# Altium footprint library stm32xx.PCBLIB: 1 footprints
Each footprint in its own frame and in the unit in brackets; x right, y up, seen from the top. Pads: shape width x height; smd on the part's side, far side on the other; paste and mask are expansions set on the pad; w line width, h text height; cw(c..) or ccw(c..) is an arc to the next point about the centre after c.
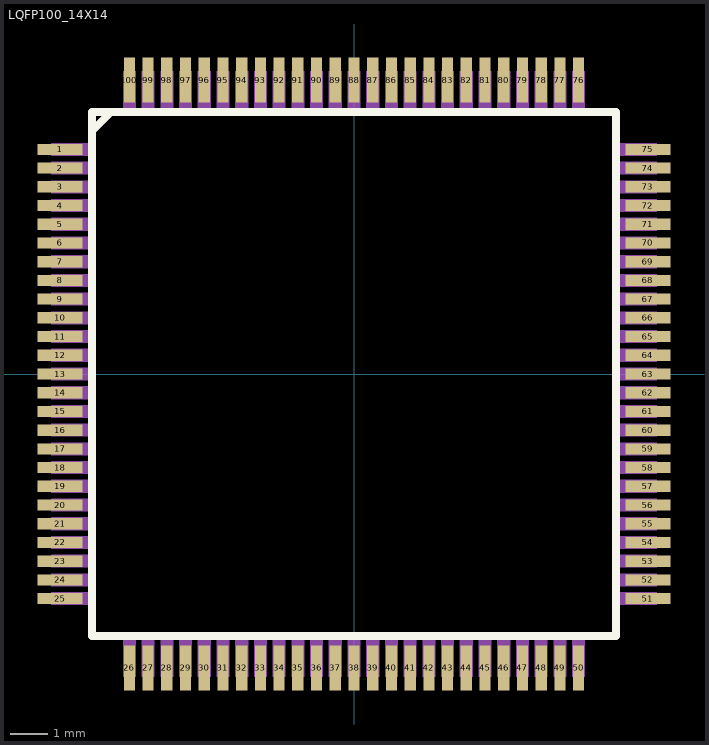
[diagram p0: the footprint, top view; thin cyan lines are the x and y axes]

## LQFP100_14X14 [mm]
pads (100):
  rect 1.2x0.3 smd: 1(-7.85,6) 2(-7.85,5.5) 3(-7.85,5) 4(-7.85,4.5) 5(-7.85,4) 6(-7.85,3.5) 7(-7.85,3) 8(-7.85,2.5) 9(-7.85,2) 10(-7.85,1.5) 11(-7.85,1) 12(-7.85,0.5) 13(-7.85,0) 14(-7.85,-0.5) 15(-7.85,-1) 16(-7.85,-1.5) 17(-7.85,-2) 18(-7.85,-2.5) 19(-7.85,-3) 20(-7.85,-3.5) 21(-7.85,-4) 22(-7.85,-4.5) 23(-7.85,-5) 24(-7.85,-5.5) 25(-7.85,-6) 51(7.85,-6) 52(7.85,-5.5) 53(7.85,-5) 54(7.85,-4.5) 55(7.85,-4) 56(7.85,-3.5) 57(7.85,-3) 58(7.85,-2.5) 59(7.85,-2) 60(7.85,-1.5) 61(7.85,-1) 62(7.85,-0.5) 63(7.85,0) 64(7.85,0.5) 65(7.85,1) 66(7.85,1.5) 67(7.85,2) 68(7.85,2.5) 69(7.85,3) 70(7.85,3.5) 71(7.85,4) 72(7.85,4.5) 73(7.85,5) 74(7.85,5.5) 75(7.85,6)
  rect 0.3x1.2 smd: 26(-6,-7.85) 27(-5.5,-7.85) 28(-5,-7.85) 29(-4.5,-7.85) 30(-4,-7.85) 31(-3.5,-7.85) 32(-3,-7.85) 33(-2.5,-7.85) 34(-2,-7.85) 35(-1.5,-7.85) 36(-1,-7.85) 37(-0.5,-7.85) 38(0,-7.85) 39(0.5,-7.85) 40(1,-7.85) 41(1.5,-7.85) 42(2,-7.85) 43(2.5,-7.85) 44(3,-7.85) 45(3.5,-7.85) 46(4,-7.85) 47(4.5,-7.85) 48(5,-7.85) 49(5.5,-7.85) 50(6,-7.85) 76(6,7.85) 77(5.5,7.85) 78(5,7.85) 79(4.5,7.85) 80(4,7.85) 81(3.5,7.85) 82(3,7.85) 83(2.5,7.85) 84(2,7.85) 85(1.5,7.85) 86(1,7.85) 87(0.5,7.85) 88(0,7.85) 89(-0.5,7.85) 90(-1,7.85) 91(-1.5,7.85) 92(-2,7.85) 93(-2.5,7.85) 94(-3,7.85) 95(-3.5,7.85) 96(-4,7.85) 97(-4.5,7.85) 98(-5,7.85) 99(-5.5,7.85) 100(-6,7.85)
Top Overlay:
  lines w0.203: -6.998,6.5 -6.5,6.998 ; -6.998,-6.998 6.998,-6.998 6.998,6.998 -6.998,6.998 -6.998,-6.998
Top Paste:
  rectangle: -8.412,5.875 -7.288,6.125
  rectangle: -8.412,5.375 -7.288,5.625
  rectangle: -8.412,4.875 -7.288,5.125
  rectangle: -8.412,4.375 -7.288,4.625
  rectangle: -8.412,3.875 -7.288,4.125
  rectangle: -8.412,3.375 -7.288,3.625
  rectangle: -8.412,2.875 -7.288,3.125
  rectangle: -8.412,2.375 -7.288,2.625
  rectangle: -8.412,1.875 -7.288,2.125
  rectangle: -8.412,1.375 -7.288,1.625
  rectangle: -8.412,0.875 -7.288,1.125
  rectangle: -8.412,0.375 -7.288,0.625
  rectangle: -8.412,-0.125 -7.288,0.125
  rectangle: -8.412,-0.625 -7.288,-0.375
  rectangle: -8.412,-1.125 -7.288,-0.875
  rectangle: -8.412,-1.625 -7.288,-1.375
  rectangle: -8.412,-2.125 -7.288,-1.875
  rectangle: -8.412,-2.625 -7.288,-2.375
  rectangle: -8.412,-3.125 -7.288,-2.875
  rectangle: -8.412,-3.625 -7.288,-3.375
  rectangle: -8.412,-4.125 -7.288,-3.875
  rectangle: -8.412,-4.625 -7.288,-4.375
  rectangle: -8.412,-5.125 -7.288,-4.875
  rectangle: -8.412,-5.625 -7.288,-5.375
  rectangle: -8.412,-6.125 -7.288,-5.875
  region: -5.875,-8.413 -5.875,-7.287 -6.125,-7.287 -6.125,-8.413
  region: -5.375,-8.412 -5.375,-7.288 -5.625,-7.288 -5.625,-8.412
  region: -4.875,-8.413 -4.875,-7.287 -5.125,-7.287 -5.125,-8.413
  region: -4.375,-8.412 -4.375,-7.288 -4.625,-7.288 -4.625,-8.412
  region: -3.875,-8.413 -3.875,-7.287 -4.125,-7.287 -4.125,-8.413
  region: -3.375,-8.412 -3.375,-7.288 -3.625,-7.288 -3.625,-8.412
  region: -2.875,-8.413 -2.875,-7.287 -3.125,-7.287 -3.125,-8.413
  region: -2.375,-8.412 -2.375,-7.288 -2.625,-7.288 -2.625,-8.412
  region: -1.875,-8.413 -1.875,-7.287 -2.125,-7.287 -2.125,-8.413
  region: -1.375,-8.412 -1.375,-7.288 -1.625,-7.288 -1.625,-8.412
  region: -0.875,-8.413 -0.875,-7.287 -1.125,-7.287 -1.125,-8.413
  region: -0.375,-8.412 -0.375,-7.288 -0.625,-7.288 -0.625,-8.412
  region: 0.125,-8.413 0.125,-7.287 -0.125,-7.287 -0.125,-8.413
  region: 0.625,-8.412 0.625,-7.288 0.375,-7.288 0.375,-8.412
  region: 1.125,-8.413 1.125,-7.287 0.875,-7.287 0.875,-8.413
  region: 1.625,-8.412 1.625,-7.288 1.375,-7.288 1.375,-8.412
  region: 2.125,-8.413 2.125,-7.287 1.875,-7.287 1.875,-8.413
  region: 2.625,-8.412 2.625,-7.288 2.375,-7.288 2.375,-8.412
  region: 3.125,-8.413 3.125,-7.287 2.875,-7.287 2.875,-8.413
  region: 3.625,-8.412 3.625,-7.288 3.375,-7.288 3.375,-8.412
  region: 4.125,-8.413 4.125,-7.287 3.875,-7.287 3.875,-8.413
  region: 4.625,-8.412 4.625,-7.288 4.375,-7.288 4.375,-8.412
  region: 5.125,-8.413 5.125,-7.287 4.875,-7.287 4.875,-8.413
  region: 5.625,-8.412 5.625,-7.288 5.375,-7.288 5.375,-8.412
  region: 6.125,-8.413 6.125,-7.287 5.875,-7.287 5.875,-8.413
  region: 8.412,-5.875 7.288,-5.875 7.288,-6.125 8.412,-6.125
  region: 8.412,-5.375 7.288,-5.375 7.288,-5.625 8.412,-5.625
  region: 8.412,-4.875 7.288,-4.875 7.288,-5.125 8.412,-5.125
  region: 8.412,-4.375 7.288,-4.375 7.288,-4.625 8.412,-4.625
  region: 8.412,-3.875 7.288,-3.875 7.288,-4.125 8.412,-4.125
  region: 8.412,-3.375 7.288,-3.375 7.288,-3.625 8.412,-3.625
  region: 8.412,-2.875 7.288,-2.875 7.288,-3.125 8.412,-3.125
  region: 8.412,-2.375 7.288,-2.375 7.288,-2.625 8.412,-2.625
  region: 8.412,-1.875 7.288,-1.875 7.288,-2.125 8.412,-2.125
  region: 8.412,-1.375 7.288,-1.375 7.288,-1.625 8.412,-1.625
  region: 8.412,-0.875 7.288,-0.875 7.288,-1.125 8.412,-1.125
  region: 8.412,-0.375 7.288,-0.375 7.288,-0.625 8.412,-0.625
  region: 8.412,0.125 7.288,0.125 7.288,-0.125 8.412,-0.125
  region: 8.412,0.625 7.288,0.625 7.288,0.375 8.412,0.375
  region: 8.412,1.125 7.288,1.125 7.288,0.875 8.412,0.875
  region: 8.412,1.625 7.288,1.625 7.288,1.375 8.412,1.375
  region: 8.412,2.125 7.288,2.125 7.288,1.875 8.412,1.875
  region: 8.412,2.625 7.288,2.625 7.288,2.375 8.412,2.375
  region: 8.412,3.125 7.288,3.125 7.288,2.875 8.412,2.875
  region: 8.412,3.625 7.288,3.625 7.288,3.375 8.412,3.375
  region: 8.412,4.125 7.288,4.125 7.288,3.875 8.412,3.875
  region: 8.412,4.625 7.288,4.625 7.288,4.375 8.412,4.375
  region: 8.412,5.125 7.288,5.125 7.288,4.875 8.412,4.875
  region: 8.412,5.625 7.288,5.625 7.288,5.375 8.412,5.375
  region: 8.412,6.125 7.288,6.125 7.288,5.875 8.412,5.875
  region: 5.875,8.413 5.875,7.287 6.125,7.287 6.125,8.413
  region: 5.375,8.412 5.375,7.288 5.625,7.288 5.625,8.412
  region: 4.875,8.413 4.875,7.287 5.125,7.287 5.125,8.413
  region: 4.375,8.412 4.375,7.288 4.625,7.288 4.625,8.412
  region: 3.875,8.413 3.875,7.287 4.125,7.287 4.125,8.413
  region: 3.375,8.412 3.375,7.288 3.625,7.288 3.625,8.412
  region: 2.875,8.413 2.875,7.287 3.125,7.287 3.125,8.413
  region: 2.375,8.412 2.375,7.288 2.625,7.288 2.625,8.412
  region: 1.875,8.413 1.875,7.287 2.125,7.287 2.125,8.413
  region: 1.375,8.412 1.375,7.288 1.625,7.288 1.625,8.412
  region: 0.875,8.413 0.875,7.287 1.125,7.287 1.125,8.413
  region: 0.375,8.412 0.375,7.288 0.625,7.288 0.625,8.412
  region: -0.125,8.413 -0.125,7.287 0.125,7.287 0.125,8.413
  region: -0.625,8.412 -0.625,7.288 -0.375,7.288 -0.375,8.412
  region: -1.125,8.413 -1.125,7.287 -0.875,7.287 -0.875,8.413
  region: -1.625,8.412 -1.625,7.288 -1.375,7.288 -1.375,8.412
  region: -2.125,8.413 -2.125,7.287 -1.875,7.287 -1.875,8.413
  region: -2.625,8.412 -2.625,7.288 -2.375,7.288 -2.375,8.412
  region: -3.125,8.413 -3.125,7.287 -2.875,7.287 -2.875,8.413
  region: -3.625,8.412 -3.625,7.288 -3.375,7.288 -3.375,8.412
  region: -4.125,8.413 -4.125,7.287 -3.875,7.287 -3.875,8.413
  region: -4.625,8.412 -4.625,7.288 -4.375,7.288 -4.375,8.412
  region: -5.125,8.413 -5.125,7.287 -4.875,7.287 -4.875,8.413
  region: -5.625,8.412 -5.625,7.288 -5.375,7.288 -5.375,8.412
  region: -6.125,8.413 -6.125,7.287 -5.875,7.287 -5.875,8.413
Top Solder:
  rectangle: -8.5,5.825 -7.2,6.175
  rectangle: -8.5,5.325 -7.2,5.675
  rectangle: -8.5,4.825 -7.2,5.175
  rectangle: -8.5,4.325 -7.2,4.675
  rectangle: -8.5,3.825 -7.2,4.175
  rectangle: -8.5,3.325 -7.2,3.675
  rectangle: -8.5,2.825 -7.2,3.175
  rectangle: -8.5,2.325 -7.2,2.675
  rectangle: -8.5,1.825 -7.2,2.175
  rectangle: -8.5,1.325 -7.2,1.675
  rectangle: -8.5,0.825 -7.2,1.175
  rectangle: -8.5,0.325 -7.2,0.675
  rectangle: -8.5,-0.175 -7.2,0.175
  rectangle: -8.5,-0.675 -7.2,-0.325
  rectangle: -8.5,-1.175 -7.2,-0.825
  rectangle: -8.5,-1.675 -7.2,-1.325
  rectangle: -8.5,-2.175 -7.2,-1.825
  rectangle: -8.5,-2.675 -7.2,-2.325
  rectangle: -8.5,-3.175 -7.2,-2.825
  rectangle: -8.5,-3.675 -7.2,-3.325
  rectangle: -8.5,-4.175 -7.2,-3.825
  rectangle: -8.5,-4.675 -7.2,-4.325
  rectangle: -8.5,-5.175 -7.2,-4.825
  rectangle: -8.5,-5.675 -7.2,-5.325
  rectangle: -8.5,-6.175 -7.2,-5.825
  region: -5.825,-8.5 -5.825,-7.2 -6.175,-7.2 -6.175,-8.5
  region: -5.325,-8.5 -5.325,-7.2 -5.675,-7.2 -5.675,-8.5
  region: -4.825,-8.5 -4.825,-7.2 -5.175,-7.2 -5.175,-8.5
  region: -4.325,-8.5 -4.325,-7.2 -4.675,-7.2 -4.675,-8.5
  region: -3.825,-8.5 -3.825,-7.2 -4.175,-7.2 -4.175,-8.5
  region: -3.325,-8.5 -3.325,-7.2 -3.675,-7.2 -3.675,-8.5
  region: -2.825,-8.5 -2.825,-7.2 -3.175,-7.2 -3.175,-8.5
  region: -2.325,-8.5 -2.325,-7.2 -2.675,-7.2 -2.675,-8.5
  region: -1.825,-8.5 -1.825,-7.2 -2.175,-7.2 -2.175,-8.5
  region: -1.325,-8.5 -1.325,-7.2 -1.675,-7.2 -1.675,-8.5
  region: -0.825,-8.5 -0.825,-7.2 -1.175,-7.2 -1.175,-8.5
  region: -0.325,-8.5 -0.325,-7.2 -0.675,-7.2 -0.675,-8.5
  region: 0.175,-8.5 0.175,-7.2 -0.175,-7.2 -0.175,-8.5
  region: 0.675,-8.5 0.675,-7.2 0.325,-7.2 0.325,-8.5
  region: 1.175,-8.5 1.175,-7.2 0.825,-7.2 0.825,-8.5
  region: 1.675,-8.5 1.675,-7.2 1.325,-7.2 1.325,-8.5
  region: 2.175,-8.5 2.175,-7.2 1.825,-7.2 1.825,-8.5
  region: 2.675,-8.5 2.675,-7.2 2.325,-7.2 2.325,-8.5
  region: 3.175,-8.5 3.175,-7.2 2.825,-7.2 2.825,-8.5
  region: 3.675,-8.5 3.675,-7.2 3.325,-7.2 3.325,-8.5
  region: 4.175,-8.5 4.175,-7.2 3.825,-7.2 3.825,-8.5
  region: 4.675,-8.5 4.675,-7.2 4.325,-7.2 4.325,-8.5
  region: 5.175,-8.5 5.175,-7.2 4.825,-7.2 4.825,-8.5
  region: 5.675,-8.5 5.675,-7.2 5.325,-7.2 5.325,-8.5
  region: 6.175,-8.5 6.175,-7.2 5.825,-7.2 5.825,-8.5
  region: 8.5,-5.825 7.2,-5.825 7.2,-6.175 8.5,-6.175
  region: 8.5,-5.325 7.2,-5.325 7.2,-5.675 8.5,-5.675
  region: 8.5,-4.825 7.2,-4.825 7.2,-5.175 8.5,-5.175
  region: 8.5,-4.325 7.2,-4.325 7.2,-4.675 8.5,-4.675
  region: 8.5,-3.825 7.2,-3.825 7.2,-4.175 8.5,-4.175
  region: 8.5,-3.325 7.2,-3.325 7.2,-3.675 8.5,-3.675
  region: 8.5,-2.825 7.2,-2.825 7.2,-3.175 8.5,-3.175
  region: 8.5,-2.325 7.2,-2.325 7.2,-2.675 8.5,-2.675
  region: 8.5,-1.825 7.2,-1.825 7.2,-2.175 8.5,-2.175
  region: 8.5,-1.325 7.2,-1.325 7.2,-1.675 8.5,-1.675
  region: 8.5,-0.825 7.2,-0.825 7.2,-1.175 8.5,-1.175
  region: 8.5,-0.325 7.2,-0.325 7.2,-0.675 8.5,-0.675
  region: 8.5,0.175 7.2,0.175 7.2,-0.175 8.5,-0.175
  region: 8.5,0.675 7.2,0.675 7.2,0.325 8.5,0.325
  region: 8.5,1.175 7.2,1.175 7.2,0.825 8.5,0.825
  region: 8.5,1.675 7.2,1.675 7.2,1.325 8.5,1.325
  region: 8.5,2.175 7.2,2.175 7.2,1.825 8.5,1.825
  region: 8.5,2.675 7.2,2.675 7.2,2.325 8.5,2.325
  region: 8.5,3.175 7.2,3.175 7.2,2.825 8.5,2.825
  region: 8.5,3.675 7.2,3.675 7.2,3.325 8.5,3.325
  region: 8.5,4.175 7.2,4.175 7.2,3.825 8.5,3.825
  region: 8.5,4.675 7.2,4.675 7.2,4.325 8.5,4.325
  region: 8.5,5.175 7.2,5.175 7.2,4.825 8.5,4.825
  region: 8.5,5.675 7.2,5.675 7.2,5.325 8.5,5.325
  region: 8.5,6.175 7.2,6.175 7.2,5.825 8.5,5.825
  region: 5.825,8.5 5.825,7.2 6.175,7.2 6.175,8.5
  region: 5.325,8.5 5.325,7.2 5.675,7.2 5.675,8.5
  region: 4.825,8.5 4.825,7.2 5.175,7.2 5.175,8.5
  region: 4.325,8.5 4.325,7.2 4.675,7.2 4.675,8.5
  region: 3.825,8.5 3.825,7.2 4.175,7.2 4.175,8.5
  region: 3.325,8.5 3.325,7.2 3.675,7.2 3.675,8.5
  region: 2.825,8.5 2.825,7.2 3.175,7.2 3.175,8.5
  region: 2.325,8.5 2.325,7.2 2.675,7.2 2.675,8.5
  region: 1.825,8.5 1.825,7.2 2.175,7.2 2.175,8.5
  region: 1.325,8.5 1.325,7.2 1.675,7.2 1.675,8.5
  region: 0.825,8.5 0.825,7.2 1.175,7.2 1.175,8.5
  region: 0.325,8.5 0.325,7.2 0.675,7.2 0.675,8.5
  region: -0.175,8.5 -0.175,7.2 0.175,7.2 0.175,8.5
  region: -0.675,8.5 -0.675,7.2 -0.325,7.2 -0.325,8.5
  region: -1.175,8.5 -1.175,7.2 -0.825,7.2 -0.825,8.5
  region: -1.675,8.5 -1.675,7.2 -1.325,7.2 -1.325,8.5
  region: -2.175,8.5 -2.175,7.2 -1.825,7.2 -1.825,8.5
  region: -2.675,8.5 -2.675,7.2 -2.325,7.2 -2.325,8.5
  region: -3.175,8.5 -3.175,7.2 -2.825,7.2 -2.825,8.5
  region: -3.675,8.5 -3.675,7.2 -3.325,7.2 -3.325,8.5
  region: -4.175,8.5 -4.175,7.2 -3.825,7.2 -3.825,8.5
  region: -4.675,8.5 -4.675,7.2 -4.325,7.2 -4.325,8.5
  region: -5.175,8.5 -5.175,7.2 -4.825,7.2 -4.825,8.5
  region: -5.675,8.5 -5.675,7.2 -5.325,7.2 -5.325,8.5
  region: -6.175,8.5 -6.175,7.2 -5.825,7.2 -5.825,8.5
Mechanical 16:
  rectangle: -8.1,5.825 -7.1,6.175
  rectangle: -8.1,5.325 -7.1,5.675
  rectangle: -8.1,4.825 -7.1,5.175
  rectangle: -8.1,4.325 -7.1,4.675
  rectangle: -8.1,3.825 -7.1,4.175
  rectangle: -8.1,3.325 -7.1,3.675
  rectangle: -8.1,2.825 -7.1,3.175
  rectangle: -8.1,2.325 -7.1,2.675
  rectangle: -8.1,1.825 -7.1,2.175
  rectangle: -8.1,1.325 -7.1,1.675
  rectangle: -8.1,0.825 -7.1,1.175
  rectangle: -8.1,0.325 -7.1,0.675
  rectangle: -8.1,-0.175 -7.1,0.175
  rectangle: -8.1,-0.675 -7.1,-0.325
  rectangle: -8.1,-1.175 -7.1,-0.825
  rectangle: -8.1,-1.675 -7.1,-1.325
  rectangle: -8.1,-2.175 -7.1,-1.825
  rectangle: -8.1,-2.675 -7.1,-2.325
  rectangle: -8.1,-3.175 -7.1,-2.825
  rectangle: -8.1,-3.675 -7.1,-3.325
  rectangle: -8.1,-4.175 -7.1,-3.825
  rectangle: -8.1,-4.675 -7.1,-4.325
  rectangle: -8.1,-5.175 -7.1,-4.825
  rectangle: -8.1,-5.675 -7.1,-5.325
  rectangle: -8.1,-6.175 -7.1,-5.825
  rectangle: -6.175,-8.1 -5.825,-7.1
  rectangle: -5.675,-8.1 -5.325,-7.1
  rectangle: -5.175,-8.1 -4.825,-7.1
  rectangle: -4.675,-8.1 -4.325,-7.1
  rectangle: -4.175,-8.1 -3.825,-7.1
  rectangle: -3.675,-8.1 -3.325,-7.1
  rectangle: -3.175,-8.1 -2.825,-7.1
  rectangle: -2.675,-8.1 -2.325,-7.1
  rectangle: -2.175,-8.1 -1.825,-7.1
  rectangle: -1.675,-8.1 -1.325,-7.1
  rectangle: -1.175,-8.1 -0.825,-7.1
  rectangle: -0.675,-8.1 -0.325,-7.1
  rectangle: -0.175,-8.1 0.175,-7.1
  rectangle: 0.325,-8.1 0.675,-7.1
  rectangle: 0.825,-8.1 1.175,-7.1
  rectangle: 1.325,-8.1 1.675,-7.1
  rectangle: 1.825,-8.1 2.175,-7.1
  rectangle: 2.325,-8.1 2.675,-7.1
  rectangle: 2.825,-8.1 3.175,-7.1
  rectangle: 3.325,-8.1 3.675,-7.1
  rectangle: 3.825,-8.1 4.175,-7.1
  rectangle: 4.325,-8.1 4.675,-7.1
  rectangle: 4.825,-8.1 5.175,-7.1
  rectangle: 5.325,-8.1 5.675,-7.1
  rectangle: 5.825,-8.1 6.175,-7.1
  rectangle: 7.1,-6.175 8.1,-5.825
  rectangle: 7.1,-5.675 8.1,-5.325
  rectangle: 7.1,-5.175 8.1,-4.825
  rectangle: 7.1,-4.675 8.1,-4.325
  rectangle: 7.1,-4.175 8.1,-3.825
  rectangle: 7.1,-3.675 8.1,-3.325
  rectangle: 7.1,-3.175 8.1,-2.825
  rectangle: 7.1,-2.675 8.1,-2.325
  rectangle: 7.1,-2.175 8.1,-1.825
  rectangle: 7.1,-1.675 8.1,-1.325
  rectangle: 7.1,-1.175 8.1,-0.825
  rectangle: 7.1,-0.675 8.1,-0.325
  rectangle: 7.1,-0.175 8.1,0.175
  rectangle: 7.1,0.325 8.1,0.675
  rectangle: 7.1,0.825 8.1,1.175
  rectangle: 7.1,1.325 8.1,1.675
  rectangle: 7.1,1.825 8.1,2.175
  rectangle: 7.1,2.325 8.1,2.675
  rectangle: 7.1,2.825 8.1,3.175
  rectangle: 7.1,3.325 8.1,3.675
  rectangle: 7.1,3.825 8.1,4.175
  rectangle: 7.1,4.325 8.1,4.675
  rectangle: 7.1,4.825 8.1,5.175
  rectangle: 7.1,5.325 8.1,5.675
  rectangle: 7.1,5.825 8.1,6.175
  rectangle: 5.825,7.1 6.175,8.1
  rectangle: 5.325,7.1 5.675,8.1
  rectangle: 4.825,7.1 5.175,8.1
  rectangle: 4.325,7.1 4.675,8.1
  rectangle: 3.825,7.1 4.175,8.1
  rectangle: 3.325,7.1 3.675,8.1
  rectangle: 2.825,7.1 3.175,8.1
  rectangle: 2.325,7.1 2.675,8.1
  rectangle: 1.825,7.1 2.175,8.1
  rectangle: 1.325,7.1 1.675,8.1
  rectangle: 0.825,7.1 1.175,8.1
  rectangle: 0.325,7.1 0.675,8.1
  rectangle: -0.175,7.1 0.175,8.1
  rectangle: -0.675,7.1 -0.325,8.1
  rectangle: -1.175,7.1 -0.825,8.1
  rectangle: -1.675,7.1 -1.325,8.1
  rectangle: -2.175,7.1 -1.825,8.1
  rectangle: -2.675,7.1 -2.325,8.1
  rectangle: -3.175,7.1 -2.825,8.1
  rectangle: -3.675,7.1 -3.325,8.1
  rectangle: -4.175,7.1 -3.825,8.1
  rectangle: -4.675,7.1 -4.325,8.1
  rectangle: -5.175,7.1 -4.825,8.1
  rectangle: -5.675,7.1 -5.325,8.1
  rectangle: -6.175,7.1 -5.825,8.1